# Altium schematic symbol library LiPoBattery.SchLib: 3 symbols
Pins are listed as number, name and electrical type; pins without a type are passive.

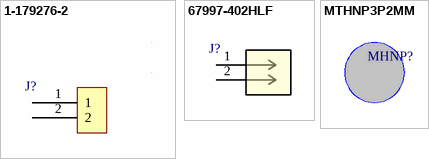
[diagram p0: symbols 1-179276-2 to MTHNP3P2MM]

## 1-179276-2
designator J?, comment CONN HEADER R/A 2POS 5.08MM  (value not drawn)
Connector Header Through Hole, Right Angle 2 position 0.200" (5.08mm); Manufacturer: TE Connectivity AMP Connectors; MAnufacturer Part Number: 1-179276-2; Supplier 1: Digikey; ComponentLink1Description: Product URL; ComponentLink1URL: https://www.te.com/en/product-1-179276-2.html; Supplier Part Number 1: A29545-ND
footprint 1-179276-2 (2_POS_HDR_X19MMY22MM)
pins: 1, 2

## 67997-402HLF
designator J?, comment 2 POS VERT HEADER  0.100"  (value not drawn)
Connector Header Through Hole 2 position; Mfr_Name: Amphenol ICC; RefDes: RefDes; Type: Type; Supplier 1: Arrow Electronics; Supplier Part Number 1: 67997-402HLF
footprint 2Pins_AMP
pins: 1, 2

## MTHNP3P2MM
designator MHNP?, comment Mounting Hole Non-Plated 3.2mm  (value not drawn)
Mounting Hole Non-Plated 3.2mm drill hole
footprint MTHNP3P2MM (Mouting Hole Non-Plated, 3.2 mm hole)